# EAGLE library part 87759-50 (library con-molex-milli-grid)
HEADER
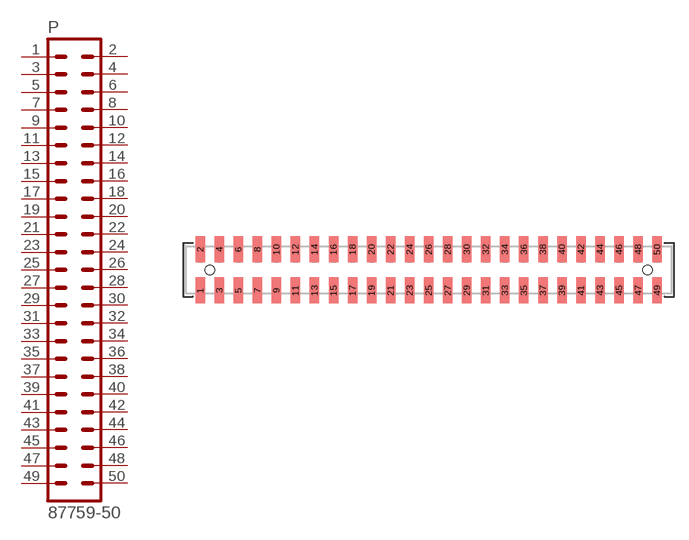
[diagram p136: symbol with the pads of 87759-50; footprint 87759-50]

Designator prefix P

## 87759-50  [87759-50]
1  1  pas
2  2  pas
3  3  pas
4  4  pas
5  5  pas
6  6  pas
7  7  pas
8  8  pas
9  9  pas
10  10  pas
11  11  pas
12  12  pas
13  13  pas
14  14  pas
15  15  pas
16  16  pas
17  17  pas
18  18  pas
19  19  pas
20  20  pas
21  21  pas
22  22  pas
23  23  pas
24  24  pas
25  25  pas
26  26  pas
27  27  pas
28  28  pas
29  29  pas
30  30  pas
31  31  pas
32  32  pas
33  33  pas
34  34  pas
35  35  pas
36  36  pas
37  37  pas
38  38  pas
39  39  pas
40  40  pas
41  41  pas
42  42  pas
43  43  pas
44  44  pas
45  45  pas
46  46  pas
47  47  pas
48  48  pas
49  49  pas
50  50  pas

## Footprint 87759-50 (pad centres in mm)
HEADER SMD Dual Row, Vertical
smd 1 x 2.75: 1 -24,-2.15; 2 -24,2.15; 3 -22,-2.15; 4 -22,2.15; 5 -20,-2.15; 6 -20,2.15; 7 -18,-2.15; 8 -18,2.15; 9 -16,-2.15; 10 -16,2.15; 11 -14,-2.15; 12 -14,2.15; 13 -12,-2.15; 14 -12,2.15; 15 -10,-2.15; 16 -10,2.15; 17 -8,-2.15; 18 -8,2.15; 19 -6,-2.15; 20 -6,2.15; 21 -4,-2.15; 22 -4,2.15; 23 -2,-2.15; 24 -2,2.15; 25 0,-2.15; 26 0,2.15; 27 2,-2.15; 28 2,2.15; 29 4,-2.15; 30 4,2.15; 31 6,-2.15; 32 6,2.15; 33 8,-2.15; 34 8,2.15; 35 10,-2.15; 36 10,2.15; 37 12,-2.15; 38 12,2.15; 39 14,-2.15; 40 14,2.15; 41 16,-2.15; 42 16,2.15; 43 18,-2.15; 44 18,2.15; 45 20,-2.15; 46 20,2.15; 47 22,-2.15; 48 22,2.15; 49 24,-2.15; 50 24,2.15
hole 1 at -23,0
hole 1 at 23,0